# Altium footprint library tant cap type d.PcbLib: 1 footprints
Each footprint in its own frame and in the unit in brackets; x right, y up, seen from the top. Pads: shape width x height; smd on the part's side, far side on the other; paste and mask are expansions set on the pad; w line width, h text height; cw(c..) or ccw(c..) is an arc to the next point about the centre after c.
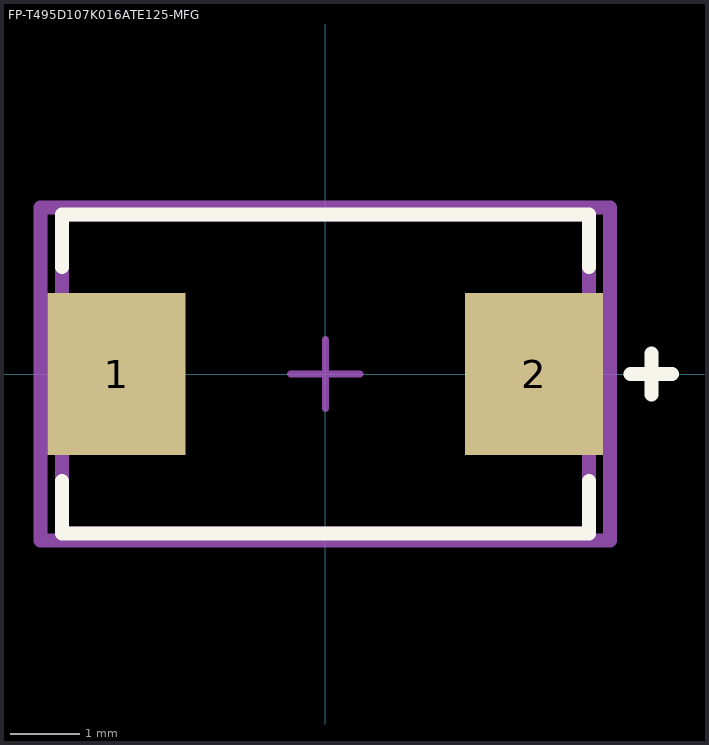
[diagram p0: the footprint, top view; thin cyan lines are the x and y axes]

## FP-T495D107K016ATE125-MFG [mm]
pads (2):
  rect 1.99x2.33 smd paste+0 mask+0: 1(-3.01,0) 2(3.01,0)
Top Overlay:
  lines w0.2: -3.8,-1.54 -3.8,-2.3 3.8,-2.3 3.8,-1.54 ; -3.8,1.54 -3.8,2.3 3.8,2.3 3.8,1.54 ; 4.4,0 5,0 ; 4.7,-0.3 4.7,0.3
Top Assembly:
  lines w0.2: -4.105,-2.4 -4.105,2.4 4.105,2.4 4.105,-2.4 -4.105,-2.4
  text ".Designator" at 0,0 h1
Top 3D Body:
  lines w0.2: -3.8,-2.3 -3.8,2.3 3.8,2.3 3.8,-2.3 -3.8,-2.3
Top Courtyard:
  lines w0.2: -4.105,-2.4 -4.105,2.4 4.105,2.4 4.105,-2.4 -4.105,-2.4
Top Component Center:
  lines w0.1: -0.5,0 0.5,0 ; 0,-0.5 0,0.5
3D body "Cap_Kemet_T495D107K016ATE125_eec.STEP": height 0.25, standoff 0, extent -4.105,-2.4 4.105,2.4